# Altium schematic symbol library ECS-2520MV-250-BN-TR.SchLib: 1 symbol
Pins are listed as number, name and electrical type; pins without a type are passive.

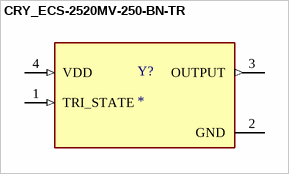
[diagram p0: symbol CRY_ECS-2520MV-250-BN-TR]

## CRY_ECS-2520MV-250-BN-TR
designator Y?
25 MHz XO (Standard) HCMOS Oscillator 1.6V ~ 3.6V Enable/Disable 4-SMD, No Lead; MF: ECS Inc.; MP: ECS-2520MV-250-BN-TR; SnapEDA_Link: https://www.snapeda.com/parts/ECS-2520MV-250-BN-TR/ECS/view-part/?ref=snap; Package: ECS-2520MV-0-4 ECS; Value: *; Check_prices: https://www.snapeda.com/parts/ECS-2520MV-250-BN-TR/ECS/view-part/?ref=eda
footprint OSC_ECS-2520S25-250-FN-TR
pins: 1 TRI_STATE (in), 2 GND (power), 3 OUTPUT (out), 4 VDD (in)